# EAGLE library part OSTTE060104 (library TJ)
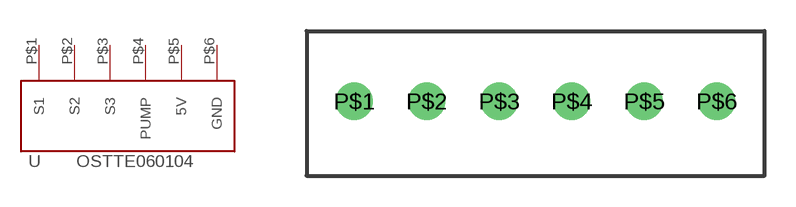
[diagram p0: symbol with the pads of OSTTE060104; footprint OSTTE060104]

Designator prefix -

## OSTTE060104  [OSTTE060104]
P$1  S1
P$2  S2
P$3  S3
P$4  PUMP
P$5  5V
P$6  GND

## Footprint OSTTE060104 (pad centres in mm)
drill 1.2: P$1 0,0; P$2 3.5,0; P$3 7,0; P$4 10.5,0; P$5 14,0; P$6 17.5,0